# EAGLE library part DRV8844 (library ICs)
MOTOR DRIVER, 4 x 1/2-H-BRIDGE, HTSSOP-28
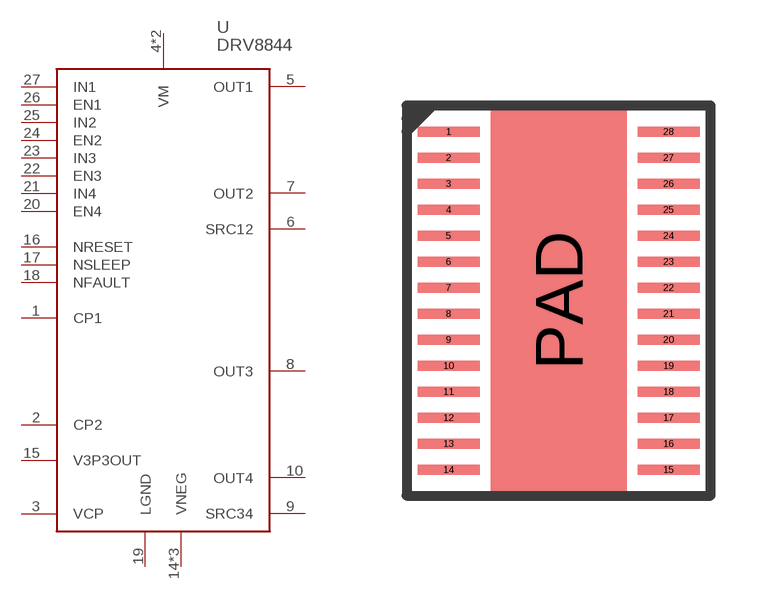
[diagram p106: symbol with the pads of HTSSOP28; footprint HTSSOP28]

Designator prefix U

## DRV8844 (FARNELL: 2492133; PRICE_PER: 4.62; VALUE: DRV8844)  [HTSSOP28]
1  CP1
2  CP2
3  VCP
4  VM
5  OUT1
6  SRC12
7  OUT2
8  OUT3
9  SRC34
10  OUT4
11  VM
14  VNEG
15  V3P3OUT
16  NRESET
17  NSLEEP
18  NFAULT
19  LGND
20  EN4
21  IN4
22  EN3
23  IN3
24  EN2
25  IN2
26  EN1
27  IN1
28  VNEG
PAD  VNEG

## Footprint HTSSOP28 (pad centres in mm)
smd 1.55 x 0.25: 1 -2.75,4.225; 2 -2.75,3.575; 3 -2.75,2.925; 4 -2.75,2.275; 5 -2.75,1.625; 6 -2.75,0.975; 7 -2.75,0.325; 8 -2.75,-0.325; 9 -2.75,-0.975; 10 -2.75,-1.625; 11 -2.75,-2.275; 12 -2.75,-2.925; 13 -2.75,-3.575; 14 -2.75,-4.225; 15 2.75,-4.225; 16 2.75,-3.575; 17 2.75,-2.925; 18 2.75,-2.275; 19 2.75,-1.625; 20 2.75,-0.975; 21 2.75,-0.325; 22 2.75,0.325; 23 2.75,0.975; 24 2.75,1.625; 25 2.75,2.275; 26 2.75,2.925; 27 2.75,3.575; 28 2.75,4.225
smd 3.4 x 9.7: PAD 0,0